# Altium footprint library xt60.PcbLib: 1 footprints
Each footprint in its own frame and in the unit in brackets; x right, y up, seen from the top. Pads: shape width x height; smd on the part's side, far side on the other; paste and mask are expansions set on the pad; w line width, h text height; cw(c..) or ccw(c..) is an arc to the next point about the centre after c.
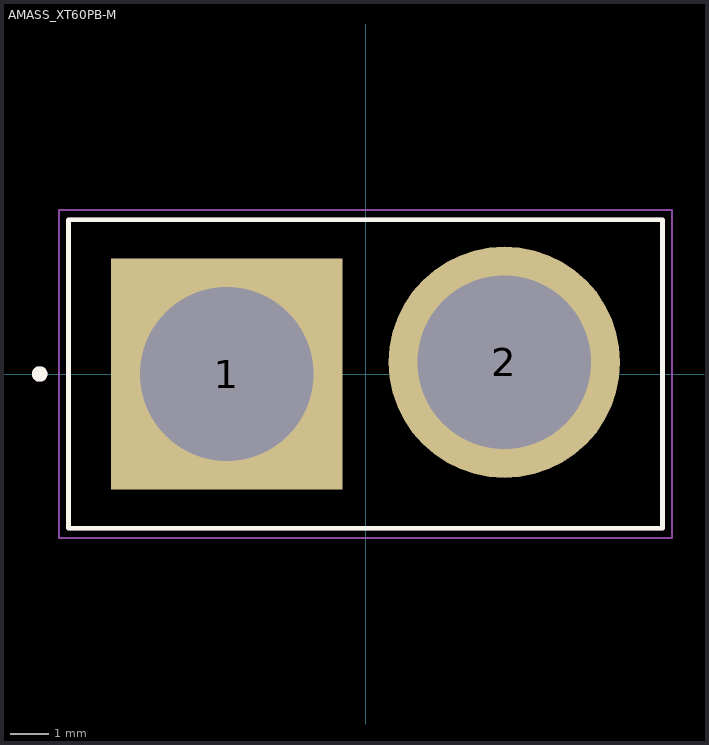
[diagram p0: the footprint, top view; thin cyan lines are the x and y axes]

## AMASS_XT60PB-M [mm]
pads (2):
  rect 6x6 hole 4.5: 1(-3.6,0)
  round 6 hole 4.5: 2(3.6,0.305)
Top Overlay:
  circle w0.2: c-8.45,0 r0.1
  circle w0.2: c-2.54,-2.222 r0.1
  lines w0.127: -7.7,-4 -7.7,4 7.7,4 7.7,-4 -7.7,-4
Mechanical 13:
  circle w0.2: c-8.45,0 r0.1
  circle w0.2: c-2.54,-2.222 r0.1
  lines w0.127: -7.7,-4 -7.7,4 7.7,4 7.7,-4 -7.7,-4
Mechanical 15:
  lines w0.05: -7.95,-4.25 -7.95,4.25 7.95,4.25 7.95,-4.25 -7.95,-4.25